# EAGLE library part DS2482-100 (library icontroller)
Single-Channel 1-Wire Master
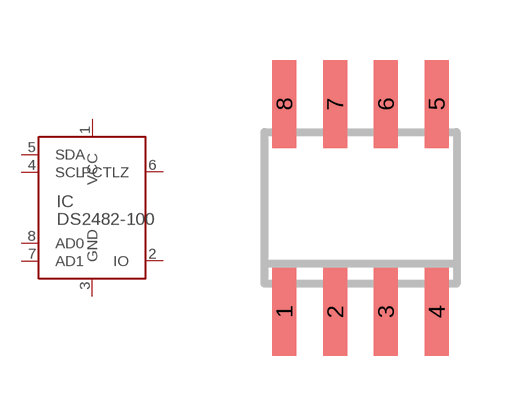
[diagram p3: symbol with the pads of SO08; footprint SO08]

Designator prefix IC

## DS2482-100  [SO08]
1  VCC  pwr
2  IO
3  GND  pwr
4  SCL
5  SDA
6  PCTLZ  out
7  AD1  in
8  AD0  in

## Footprint SO08 (pad centres in mm)
SMALL OUTLINE INTEGRATED CIRCUIT body 3.9 mm/JEDEC MS-012AA
smd 0.6 x 2.2: 1 -1.905,-2.6; 2 -0.635,-2.6; 3 0.635,-2.6; 4 1.905,-2.6; 5 1.905,2.6; 6 0.635,2.6; 7 -0.635,2.6; 8 -1.905,2.6